# Altium schematic symbol library RT0805FRE071KL.SchLib: 1 symbol
Pins are listed as number, name and electrical type; pins without a type are passive.

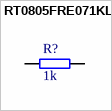
[diagram p0: symbol RT0805FRE071KL]

## RT0805FRE071KL
designator R?, comment 1k
1 kOhms Â±1% 0.125W, 1/8W Chip Resistor 0805 (2012 Metric) Thin Film; MF: Yageo; MP: RT0805FRE071KL; Package: 2012 Rohm Semiconductor; Check_prices: https://www.snapeda.com/parts/RT0805FRE071KL/Yageo/view-part/615646/?ref=eda; Digi-Key_Part_Number: YAG1240CT-ND; Value: *; Purchase-URL: https://pricing.snapeda.com/search/part/RT0805FRE071KL/?ref=eda; SnapEDA_Link: https://www.snapeda.com/parts/RT0805FRE071KL/Yageo/view-part/615646/?ref=snap
footprint RESC2012X60N
pins: 1, 2